# Altium schematic symbol library ATK-M750.SchLib: 1 symbol
Pins are listed as number, name and electrical type; pins without a type are passive.

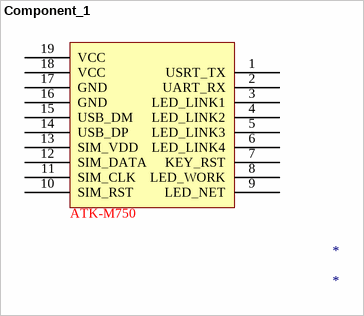
[diagram p0: symbol Component_1]

## Component_1
designator *
pins: 1 USRT_TX, 2 UART_RX, 3 LED_LINK1, 4 LED_LINK2, 5 LED_LINK3, 6 LED_LINK4, 7 KEY_RST, 8 LED_WORK, 9 LED_NET, 10 SIM_RST, 11 SIM_CLK, 12 SIM_DATA, 13 SIM_VDD, 14 USB_DP, 15 USB_DM, 16 GND, 17 GND, 18 VCC, 19 VCC
text: ATK-M750